# EAGLE library part MCP4131-104E_SN (library MCP4131-104E_SN)
MCP4131-104E/SN, Digital Potentiometer 100k 129-Position Linear Serial-SPI 8-Pin SOIC Source: Datasheet <http://ww1.microchip.com/downloads/en/DeviceDoc/22060b.pdf>
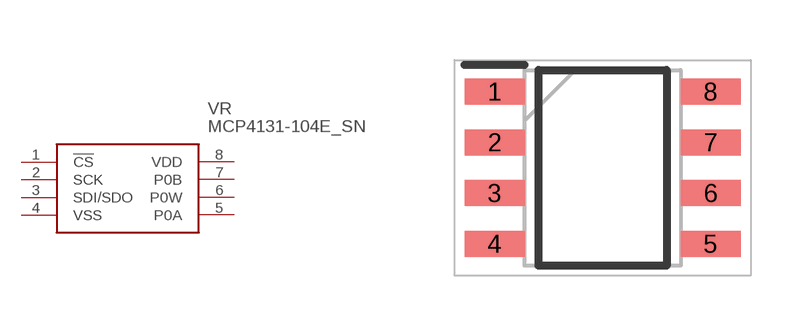
[diagram p0: symbol with the pads of SOIC127P600X175-8N; footprint SOIC127P600X175-8N]

Designator prefix VR

## MCP4131-104E_SN (Description: MCP4131-104E/SN, Digital Potentiometer 100k 129-Position Linear Serial-SPI 8-Pin SOIC; Height: 1.75mm; Manufacturer_Name: Microchip; Manufacturer_Part_Number: MCP4131-104E/SN; Mouser_Part_Number: 579-MCP4131-104E/SN; Mouser_Price-Stock: https://www.mouser.co.uk/ProductDetail/Microchip-Technology/MCP4131-104E-SN?qs=hH%252BOa0VZEiCC5jnuF305ZA%3D%3D)  [SOIC127P600X175-8N]
1  !CS
2  SCK
3  SDI/SDO
4  VSS
5  P0A
6  P0W
7  P0B
8  VDD

## Footprint SOIC127P600X175-8N (pad centres in mm)
8 lead soic
smd 1.5 x 0.65: 1 -2.7,1.905; 2 -2.7,0.635; 3 -2.7,-0.635; 4 -2.7,-1.905; 5 2.7,-1.905; 6 2.7,-0.635; 7 2.7,0.635; 8 2.7,1.905